# EAGLE library part TA0576A (library SeniorDesign)
SAW Filter 221.6 MHz SMD 5.0x5.0mm Source: Datasheet <https://www.taisaw.com/upload/product/TA0576A _Rev 2.0_.pdf>
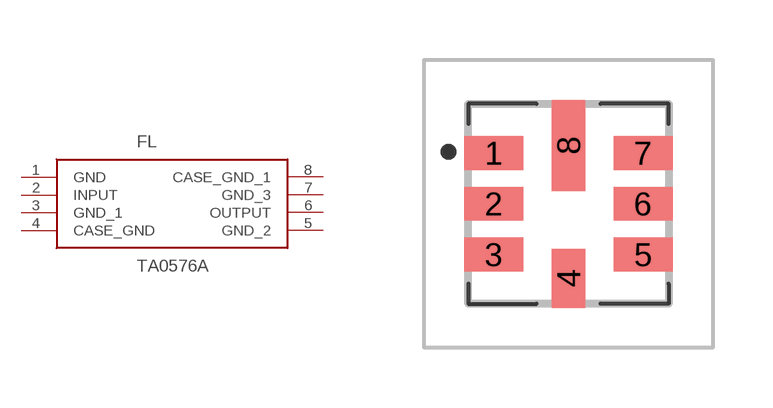
[diagram p1: symbol with the pads of TA0576A; footprint TA0576A]

Designator prefix FL

## TA0576A (DESCRIPTION: SAW Filter 221.6 MHz SMD 5.0x5.0mm; HEIGHT: 1.7mm; MANUFACTURER_NAME: TAI-SAW Technology; MANUFACTURER_PART_NUMBER: TA0576A)  [TA0576A]
1  GND
2  INPUT
3  GND_1
4  CASE_GND
5  GND_2
6  OUTPUT
7  GND_3
8  CASE_GND_1

## Footprint TA0576A (pad centres in mm)
TA0576A-2
smd 1.47 x 0.84: 1 -1.865,1.27; 2 -1.865,0; 3 -1.865,-1.27; 5 1.865,-1.27; 6 1.865,0; 7 1.865,1.27
smd 0.84 x 1.47: 4 0,-1.865
smd 0.84 x 2.28: 8 0,1.46